# Altium schematic symbol library 15PİNHEADER.SchLib: 1 symbol
Pins are listed as number, name and electrical type; pins without a type are passive.

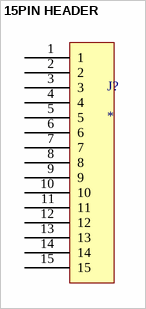
[diagram p0: symbol 15PIN HEADER]

## 15PIN HEADER
designator J?
footprint header 1x15 (2.54mm)
pins: 1, 2, 3, 4, 5, 6, 7, 8, 9, 10, 11, 12, 13, 14, 15